# Altium footprint library JST-GH.PcbLib: 2 footprints
Each footprint in its own frame and in the unit in brackets; x right, y up, seen from the top. Pads: shape width x height; smd on the part's side, far side on the other; paste and mask are expansions set on the pad; w line width, h text height; cw(c..) or ccw(c..) is an arc to the next point about the centre after c.
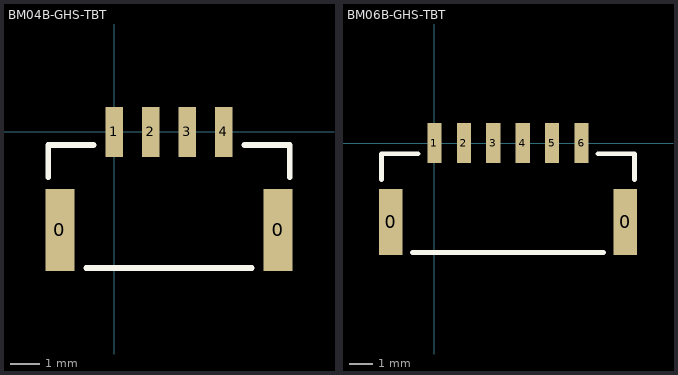
[diagram p0: the footprints below, top view; thin cyan lines are the x and y axes]

## BM04B-GHS-TBT [mm] "Vertical"
height 7.3
pads (6):
  rect 1x2.8 smd: 0(-1.85,-3.35) 0(5.6,-3.35)
  rect 0.6x1.7 smd: 1(0,0) 2(1.25,0) 3(2.5,0) 4(3.75,0)
Top Overlay:
  lines w0.2: -2.25,-1.55 -2.25,-0.45 -0.7,-0.45 ; -0.95,-4.65 4.7,-4.65 ; 4.45,-0.45 6,-0.45 6,-1.55
3D body "BM04B-GHS-TBT.STEP": height 4.18, standoff -0.03, extent -2.25,-4.675 6,0.275

## BM06B-GHS-TBT [mm] "Vertical"
height 7.3
pads (8):
  rect 1x2.8 smd: 0(-1.85,-3.35) 0(8.1,-3.35)
  rect 0.6x1.7 smd: 1(0,0) 2(1.25,0) 3(2.5,0) 4(3.75,0) 5(5,0) 6(6.25,0)
Top Overlay:
  lines w0.2: -2.25,-1.55 -2.25,-0.45 -0.7,-0.45 ; -0.95,-4.65 7.2,-4.65 ; 6.95,-0.45 8.5,-0.45 8.5,-1.55
3D body "BM06B-GHS-TBT.STEP": height 3.88, standoff -0.33, extent -2.275,-4.65 8.475,0.3